# Altium footprint library RJ45jacks.PcbLib: 1 footprints
Each footprint in its own frame and in the unit in brackets; x right, y up, seen from the top. Pads: shape width x height; smd on the part's side, far side on the other; paste and mask are expansions set on the pad; w line width, h text height; cw(c..) or ccw(c..) is an arc to the next point about the centre after c.
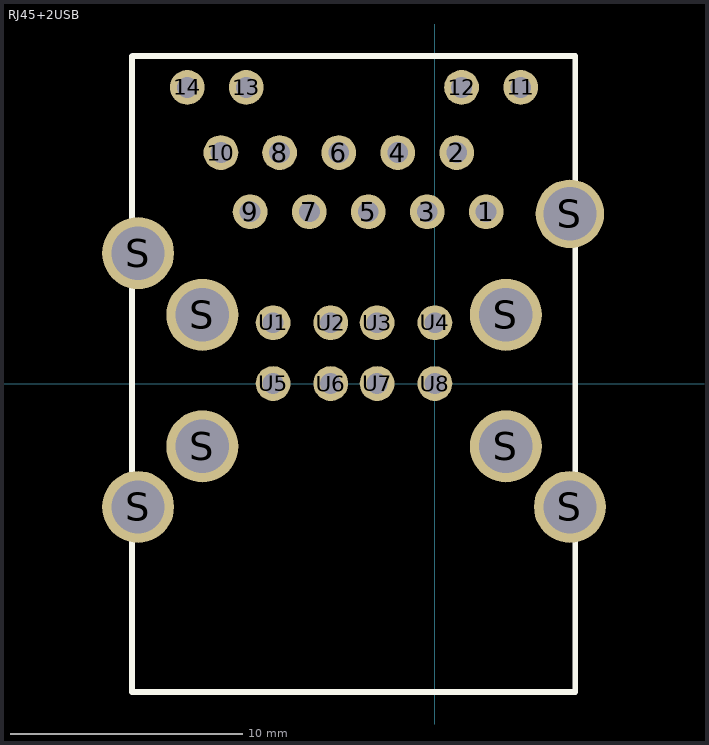
[diagram p0: the footprint, top view; thin cyan lines are the x and y axes]

## RJ45+2USB [mm] "RJ45 + 2 USB"
pads (30):
  round 1.5 hole 0.9: 1(2.21,7.4) 2(0.94,9.95) 3(-0.33,7.4) 4(-1.6,9.95) 5(-2.87,7.4) 6(-4.14,9.95) 7(-5.41,7.4) 8(-6.69,9.95) 9(-7.96,7.4) 10(-9.22,9.95) 11(3.7,12.76) 12(1.15,12.76) 13(-8.13,12.76) 14(-10.67,12.76) U1(-6.97,2.62) U2(-4.49,2.62) U3(-2.49,2.62) U4(0,2.62) U5(-6.97,0) U6(-4.49,0) U7(-2.49,0) U8(0,0)
  round 3.1 hole 2.3: S(-12.79,-5.32) S(-12.79,5.62) S(-10.02,-2.71) S(-10.02,2.96) S(3.06,-2.71) S(3.06,2.96) S(5.82,-5.32)
  round 2.95 hole 2.3: S(5.82,7.31)
Top Overlay:
  lines w0.254: -13.05,-13.3 6.05,-13.3 6.05,14.12 -13.03,14.12 -13.05,14.1 -13.05,-13.3
3D body: height 31, standoff 0, extent -13.051,-13.301 6.051,14.121